# Altium integrated library Resistor - Current Sense.IntLib: 810 symbols (part 12 of 12)
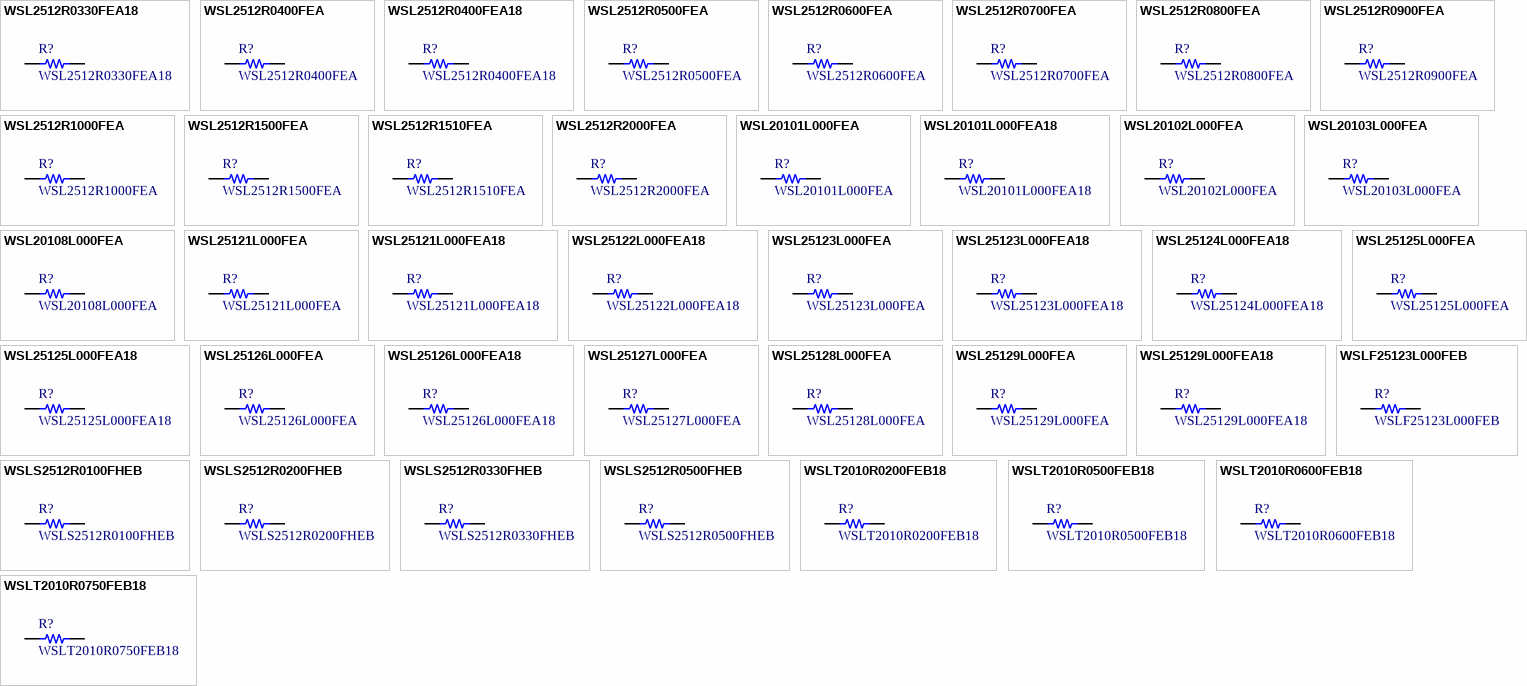
[diagram p31: symbols WSL2512R0330FEA18 to WSLT2010R0750FEB18]

## WSL25126L000FEA18
designator R?
RES SMD 0.006 OHM 1% 2W 2512; Manufacturer: Vishay Dale; Value: 0.006; TemperatureRange: -65C ~ 170C; TemperatureCoefficient: 110ppm/C; Part Number: WSL25126L000FEA18; PartId: 21513; Supplier 1: Digi-Key; Supplier Part Number 1: WSLH-.006TR-ND; ComponentLink1Description: Datasheet; ComponentLink1URL: http://www.vishay.com/docs/31057/wslhigh.pdf; ComponentLink2Description: Digi-Key Listing; ComponentLink2URL: https://www.digikey.com/product-detail/en/vishay-dale/WSL25126L000FEA18/WSLH-.006TR-ND/2695044; Tolerance: 1%; PowerRating: 2W; Price: 0.8287; Device Package: 2512 (6432 Metric)
footprint STACKPOLE CSR2512
pins: 1, 2

## WSL25127L000FEA
designator R?
RES SMD 0.007 OHM 1% 1W 2512; Manufacturer: Vishay Dale; Value: 0.007; TemperatureRange: -65C ~ 170C; TemperatureCoefficient: 75ppm/C; Part Number: WSL25127L000FEA; PartId: 21502; Supplier 1: Digi-Key; Supplier Part Number 1: WSLG-.007TR-ND; ComponentLink1Description: Datasheet; ComponentLink1URL: http://www.vishay.com/docs/30100/wsl.pdf; ComponentLink2Description: Digi-Key Listing; ComponentLink2URL: https://www.digikey.com/product-detail/en/vishay-dale/WSL25127L000FEA/WSLG-.007TR-ND/712557; Tolerance: 1%; PowerRating: 1W; Price: 0.6375; Device Package: 2512 (6432 Metric)
footprint STACKPOLE CSR2512
pins: 1, 2

## WSL25128L000FEA
designator R?
RES SMD 0.008 OHM 1% 1W 2512; Manufacturer: Vishay Dale; Value: 0.008; TemperatureRange: -65C ~ 170C; TemperatureCoefficient: 75ppm/C; Part Number: WSL25128L000FEA; PartId: 21504; Supplier 1: Digi-Key; Supplier Part Number 1: WSLG-.008TR-ND; ComponentLink1Description: Datasheet; ComponentLink1URL: http://www.vishay.com/docs/30100/wsl.pdf; ComponentLink2Description: Digi-Key Listing; ComponentLink2URL: https://www.digikey.com/product-detail/en/vishay-dale/WSL25128L000FEA/WSLG-.008TR-ND/712558; Tolerance: 1%; PowerRating: 1W; Price: 0.6375; Device Package: 2512 (6432 Metric)
footprint STACKPOLE CSR2512
pins: 1, 2

## WSL25129L000FEA
designator R?
RES SMD 0.009 OHM 1% 1W 2512; Manufacturer: Vishay Dale; Value: 0.009; TemperatureRange: -65C ~ 170C; TemperatureCoefficient: 75ppm/C; Part Number: WSL25129L000FEA; PartId: 21503; Supplier 1: Digi-Key; Supplier Part Number 1: WSLG-.009TR-ND; ComponentLink1Description: Datasheet; ComponentLink1URL: http://www.vishay.com/docs/30100/wsl.pdf; ComponentLink2Description: Digi-Key Listing; ComponentLink2URL: https://www.digikey.com/product-detail/en/vishay-dale/WSL25129L000FEA/WSLG-.009TR-ND/712559; Tolerance: 1%; PowerRating: 1W; Price: 0.6375; Device Package: 2512 (6432 Metric)
footprint STACKPOLE CSR2512
pins: 1, 2

## WSL25129L000FEA18
designator R?
RES SMD 0.009 OHM 1% 2W 2512; Manufacturer: Vishay Dale; Value: 0.009; TemperatureRange: -65C ~ 170C; TemperatureCoefficient: 75ppm/C; Part Number: WSL25129L000FEA18; PartId: 21511; Supplier 1: Digi-Key; Supplier Part Number 1: WSLH-.009TR-ND; ComponentLink1Description: Datasheet; ComponentLink1URL: http://www.vishay.com/docs/31057/wslhigh.pdf; ComponentLink2Description: Digi-Key Listing; ComponentLink2URL: https://www.digikey.com/product-detail/en/vishay-dale/WSL25129L000FEA18/WSLH-.009TR-ND/712560; Tolerance: 1%; PowerRating: 2W; Price: 0.8287; Device Package: 2512 (6432 Metric)
footprint STACKPOLE CSR2512
pins: 1, 2

## WSLF25123L000FEB
designator R?
RES SMD 0.003 OHM 1% 4W 2512; Manufacturer: Vishay Dale; Value: 0.003; TemperatureRange: -65C ~ 170C; TemperatureCoefficient: 70ppm/C; Part Number: WSLF25123L000FEB; PartId: 21446; Supplier 1: Digi-Key; Supplier Part Number 1: 541-3132-2-ND; ComponentLink1Description: Datasheet; ComponentLink1URL: http://www.vishay.com/docs/30193/wslf.pdf; ComponentLink2Description: Digi-Key Listing; ComponentLink2URL: https://www.digikey.com/product-detail/en/vishay-dale/WSLF25123L000FEB/541-3132-2-ND/6194695; Tolerance: 1%; PowerRating: 4W; Price: 0.2835; Device Package: 2512 (6432 Metric)
footprint STACKPOLE CSR2512
pins: 1, 2

## WSLS2512R0100FHEB
designator R?
RES SMD 0.01 OHM 1% 1W 2512; Manufacturer: Vishay Dale; Value: 0.01; TemperatureRange: -65C ~ 170C; TemperatureCoefficient: 75ppm/C; Part Number: WSLS2512R0100FHEB; PartId: 21505; Supplier 1: Digi-Key; Supplier Part Number 1: WSLSA-.010TR-ND; ComponentLink1Description: Datasheet; ComponentLink1URL: http://www.vishay.com/docs/30123/wsls2512.pdf; ComponentLink2Description: Digi-Key Listing; ComponentLink2URL: https://www.digikey.com/product-detail/en/vishay-dale/WSLS2512R0100FHEB/WSLSA-.010TR-ND/2695182; Tolerance: 1%; PowerRating: 1W; Price: 0.65; Device Package: 2512 (6432 Metric)
footprint STACKPOLE CSR2512
pins: 1, 2

## WSLS2512R0200FHEB
designator R?
RES SMD 0.02 OHM 1% 1W 2512; Manufacturer: Vishay Dale; Value: 0.02; TemperatureRange: -65C ~ 170C; TemperatureCoefficient: 75ppm/C; Part Number: WSLS2512R0200FHEB; PartId: 21508; Supplier 1: Digi-Key; Supplier Part Number 1: WSLSA-.020TR-ND; ComponentLink1Description: Datasheet; ComponentLink1URL: http://www.vishay.com/docs/30123/wsls2512.pdf; ComponentLink2Description: Digi-Key Listing; ComponentLink2URL: https://www.digikey.com/product-detail/en/vishay-dale/WSLS2512R0200FHEB/WSLSA-.020TR-ND/2695184; Tolerance: 1%; PowerRating: 1W; Price: 0.65; Device Package: 2512 (6432 Metric)
footprint STACKPOLE CSR2512
pins: 1, 2

## WSLS2512R0330FHEB
designator R?
RES SMD 0.033 OHM 1% 1W 2512; Manufacturer: Vishay Dale; Value: 0.033; TemperatureRange: -65C ~ 170C; TemperatureCoefficient: 75ppm/C; Part Number: WSLS2512R0330FHEB; PartId: 21507; Supplier 1: Digi-Key; Supplier Part Number 1: WSLSA-.033TR-ND; ComponentLink1Description: Datasheet; ComponentLink1URL: http://www.vishay.com/docs/30123/wsls2512.pdf; ComponentLink2Description: Digi-Key Listing; ComponentLink2URL: https://www.digikey.com/product-detail/en/vishay-dale/WSLS2512R0330FHEB/WSLSA-.033TR-ND/2695185; Tolerance: 1%; PowerRating: 1W; Price: 0.65; Device Package: 2512 (6432 Metric)
footprint STACKPOLE CSR2512
pins: 1, 2

## WSLS2512R0500FHEB
designator R?
RES SMD 0.05 OHM 1% 1W 2512; Manufacturer: Vishay Dale; Value: 0.05; TemperatureRange: -65C ~ 170C; TemperatureCoefficient: 75ppm/C; Part Number: WSLS2512R0500FHEB; PartId: 21506; Supplier 1: Digi-Key; Supplier Part Number 1: WSLSA-.050TR-ND; ComponentLink1Description: Datasheet; ComponentLink1URL: http://www.vishay.com/docs/30123/wsls2512.pdf; ComponentLink2Description: Digi-Key Listing; ComponentLink2URL: https://www.digikey.com/product-detail/en/vishay-dale/WSLS2512R0500FHEB/WSLSA-.050TR-ND/2695187; Tolerance: 1%; PowerRating: 1W; Price: 0.65; Device Package: 2512 (6432 Metric)
footprint STACKPOLE CSR2512
pins: 1, 2

## WSLT2010R0200FEB18
designator R?
RES SMD 0.02 OHM 1% 1W 2010; Manufacturer: Vishay Dale; Value: 0.02; TemperatureRange: -65C ~ 275C; TemperatureCoefficient: 75ppm/C; Part Number: WSLT2010R0200FEB18; PartId: 21585; Supplier 1: Digi-Key; Supplier Part Number 1: WSLTA-.020TR-ND; ComponentLink1Description: Datasheet; ComponentLink1URL: http://www.vishay.com/docs/30138/wslt2010.pdf; ComponentLink2Description: Digi-Key Listing; ComponentLink2URL: https://www.digikey.com/product-detail/en/vishay-dale/WSLT2010R0200FEB18/WSLTA-.020TR-ND/2695141; Tolerance: 1%; PowerRating: 1W; Price: 0.3591; Device Package: 2010 (5025 Metric)
footprint STACKPOLE CSR2010
pins: 1, 2

## WSLT2010R0500FEB18
designator R?
RES SMD 0.05 OHM 1% 1W 2010; Manufacturer: Vishay Dale; Value: 0.05; TemperatureRange: -65C ~ 275C; TemperatureCoefficient: 75ppm/C; Part Number: WSLT2010R0500FEB18; PartId: 21586; Supplier 1: Digi-Key; Supplier Part Number 1: WSLTA-.050TR-ND; ComponentLink1Description: Datasheet; ComponentLink1URL: http://www.vishay.com/docs/30138/wslt2010.pdf; ComponentLink2Description: Digi-Key Listing; ComponentLink2URL: https://www.digikey.com/product-detail/en/vishay-dale/WSLT2010R0500FEB18/WSLTA-.050TR-ND/2695145; Tolerance: 1%; PowerRating: 1W; Price: 0.3591; Device Package: 2010 (5025 Metric)
footprint STACKPOLE CSR2010
pins: 1, 2

## WSLT2010R0600FEB18
designator R?
RES SMD 0.06 OHM 1% 1W 2010; Manufacturer: Vishay Dale; Value: 0.06; TemperatureRange: -65C ~ 275C; TemperatureCoefficient: 75ppm/C; Part Number: WSLT2010R0600FEB18; PartId: 21584; Supplier 1: Digi-Key; Supplier Part Number 1: WSLTA-.060TR-ND; ComponentLink1Description: Datasheet; ComponentLink1URL: http://www.vishay.com/docs/30138/wslt2010.pdf; ComponentLink2Description: Digi-Key Listing; ComponentLink2URL: https://www.digikey.com/product-detail/en/vishay-dale/WSLT2010R0600FEB18/WSLTA-.060TR-ND/2695146; Tolerance: 1%; PowerRating: 1W; Price: 0.3591; Device Package: 2010 (5025 Metric)
footprint STACKPOLE CSR2010
pins: 1, 2

## WSLT2010R0750FEB18
designator R?
RES SMD 0.075 OHM 1% 1W 2010; Manufacturer: Vishay Dale; Value: 0.075; TemperatureRange: -65C ~ 275C; TemperatureCoefficient: 75ppm/C; Part Number: WSLT2010R0750FEB18; PartId: 21578; Supplier 1: Digi-Key; Supplier Part Number 1: WSLTA-.075TR-ND; ComponentLink1Description: Datasheet; ComponentLink1URL: http://www.vishay.com/docs/30138/wslt2010.pdf; ComponentLink2Description: Digi-Key Listing; ComponentLink2URL: https://www.digikey.com/product-detail/en/vishay-dale/WSLT2010R0750FEB18/WSLTA-.075TR-ND/2695147; Tolerance: 1%; PowerRating: 1W; Price: 0.3307; Device Package: 2010 (5025 Metric)
footprint STACKPOLE CSR2010
pins: 1, 2

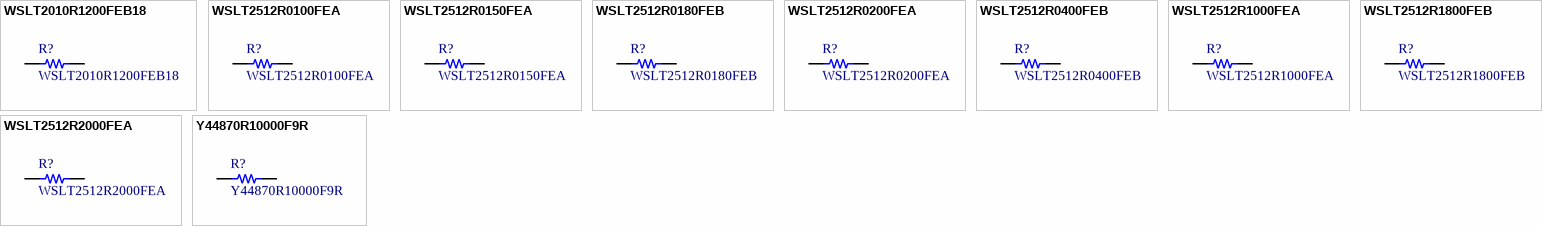
[diagram p20: symbols WSLT2010R1200FEB18 to Y44870R10000F9R]

## WSLT2010R1200FEB18
designator R?
RES SMD 0.12 OHM 1% 1W 2010; Manufacturer: Vishay Dale; Value: 0.12; TemperatureRange: -65C ~ 275C; TemperatureCoefficient: 75ppm/C; Part Number: WSLT2010R1200FEB18; PartId: 21579; Supplier 1: Digi-Key; Supplier Part Number 1: WSLTA-.120TR-ND; ComponentLink1Description: Datasheet; ComponentLink1URL: http://www.vishay.com/docs/30138/wslt2010.pdf; ComponentLink2Description: Digi-Key Listing; ComponentLink2URL: https://www.digikey.com/product-detail/en/vishay-dale/WSLT2010R1200FEB18/WSLTA-.120TR-ND/2695149; Tolerance: 1%; PowerRating: 1W; Price: 0.3307; Device Package: 2010 (5025 Metric)
footprint STACKPOLE CSR2010
pins: 1, 2

## WSLT2512R0100FEA
designator R?
RES SMD 0.01 OHM 1% 1W 2512; Manufacturer: Vishay Dale; Value: 0.01; TemperatureRange: -65C ~ 275C; TemperatureCoefficient: 75ppm/C; Part Number: WSLT2512R0100FEA; PartId: 21457; Supplier 1: Digi-Key; Supplier Part Number 1: WSLT-.01TR-ND; ComponentLink1Description: Datasheet; ComponentLink1URL: http://www.vishay.com/docs/30121/wslt2512.pdf; ComponentLink2Description: Digi-Key Listing; ComponentLink2URL: https://www.digikey.com/product-detail/en/vishay-dale/WSLT2512R0100FEA/WSLT-.01TR-ND/1883284; Tolerance: 1%; PowerRating: 1W; Price: 0.351; Device Package: 2512 (6432 Metric)
footprint STACKPOLE CSR2512
pins: 1, 2

## WSLT2512R0150FEA
designator R?
RES SMD 0.015 OHM 1% 1W 2512; Manufacturer: Vishay Dale; Value: 0.015; TemperatureRange: -65C ~ 275C; TemperatureCoefficient: 75ppm/C; Part Number: WSLT2512R0150FEA; PartId: 21459; Supplier 1: Digi-Key; Supplier Part Number 1: WSLT-.015TR-ND; ComponentLink1Description: Datasheet; ComponentLink1URL: http://www.vishay.com/docs/30121/wslt2512.pdf; ComponentLink2Description: Digi-Key Listing; ComponentLink2URL: https://www.digikey.com/product-detail/en/vishay-dale/WSLT2512R0150FEA/WSLT-.015TR-ND/1883285; Tolerance: 1%; PowerRating: 1W; Price: 0.351; Device Package: 2512 (6432 Metric)
footprint STACKPOLE CSR2512
pins: 1, 2

## WSLT2512R0180FEB
designator R?
RES SMD 0.018 OHM 1% 1W 2512; Manufacturer: Vishay Dale; Value: 0.018; TemperatureRange: -65C ~ 275C; TemperatureCoefficient: 75ppm/C; Part Number: WSLT2512R0180FEB; PartId: 21460; Supplier 1: Digi-Key; Supplier Part Number 1: WSLTB-.018TR-ND; ComponentLink1Description: Datasheet; ComponentLink1URL: http://www.vishay.com/docs/30121/wslt2512.pdf; ComponentLink2Description: Digi-Key Listing; ComponentLink2URL: https://www.digikey.com/product-detail/en/vishay-dale/WSLT2512R0180FEB/WSLTB-.018TR-ND/2695160; Tolerance: 1%; PowerRating: 1W; Price: 0.3591; Device Package: 2512 (6432 Metric)
footprint STACKPOLE CSR2512
pins: 1, 2

## WSLT2512R0200FEA
designator R?
RES SMD 0.02 OHM 1% 1W 2512; Manufacturer: Vishay Dale; Value: 0.02; TemperatureRange: -65C ~ 275C; TemperatureCoefficient: 75ppm/C; Part Number: WSLT2512R0200FEA; PartId: 21458; Supplier 1: Digi-Key; Supplier Part Number 1: WSLT-.02TR-ND; ComponentLink1Description: Datasheet; ComponentLink1URL: http://www.vishay.com/docs/30121/wslt2512.pdf; ComponentLink2Description: Digi-Key Listing; ComponentLink2URL: https://www.digikey.com/product-detail/en/vishay-dale/WSLT2512R0200FEA/WSLT-.02TR-ND/1883286; Tolerance: 1%; PowerRating: 1W; Price: 0.351; Device Package: 2512 (6432 Metric)
footprint STACKPOLE CSR2512
pins: 1, 2

## WSLT2512R0400FEB
designator R?
RES SMD 0.04 OHM 1% 1W 2512; Manufacturer: Vishay Dale; Value: 0.04; TemperatureRange: -65C ~ 275C; TemperatureCoefficient: 75ppm/C; Part Number: WSLT2512R0400FEB; PartId: 21461; Supplier 1: Digi-Key; Supplier Part Number 1: WSLTB-.040TR-ND; ComponentLink1Description: Datasheet; ComponentLink1URL: http://www.vishay.com/docs/30121/wslt2512.pdf; ComponentLink2Description: Digi-Key Listing; ComponentLink2URL: https://www.digikey.com/product-detail/en/vishay-dale/WSLT2512R0400FEB/WSLTB-.040TR-ND/2695161; Tolerance: 1%; PowerRating: 1W; Price: 0.3591; Device Package: 2512 (6432 Metric)
footprint STACKPOLE CSR2512
pins: 1, 2

## WSLT2512R1000FEA
designator R?
RES SMD 0.1 OHM 1% 1W 2512; Manufacturer: Vishay Dale; Value: 0.1; TemperatureRange: -65C ~ 275C; TemperatureCoefficient: 75ppm/C; Part Number: WSLT2512R1000FEA; PartId: 21453; Supplier 1: Digi-Key; Supplier Part Number 1: WSLT-.1TR-ND; ComponentLink1Description: Datasheet; ComponentLink1URL: http://www.vishay.com/docs/30121/wslt2512.pdf; ComponentLink2Description: Digi-Key Listing; ComponentLink2URL: https://www.digikey.com/product-detail/en/vishay-dale/WSLT2512R1000FEA/WSLT-.1TR-ND/1883288; Tolerance: 1%; PowerRating: 1W; Price: 0.3221; Device Package: 2512 (6432 Metric)
footprint STACKPOLE CSR2512
pins: 1, 2

## WSLT2512R1800FEB
designator R?
RES SMD 0.18 OHM 1% 1W 2512; Manufacturer: Vishay Dale; Value: 0.18; TemperatureRange: -65C ~ 275C; TemperatureCoefficient: 75ppm/C; Part Number: WSLT2512R1800FEB; PartId: 21456; Supplier 1: Digi-Key; Supplier Part Number 1: WSLTB-.180TR-ND; ComponentLink1Description: Datasheet; ComponentLink1URL: http://www.vishay.com/docs/30121/wslt2512.pdf; ComponentLink2Description: Digi-Key Listing; ComponentLink2URL: https://www.digikey.com/product-detail/en/vishay-dale/WSLT2512R1800FEB/WSLTB-.180TR-ND/2695167; Tolerance: 1%; PowerRating: 1W; Price: 0.3307; Device Package: 2512 (6432 Metric)
footprint STACKPOLE CSR2512
pins: 1, 2

## WSLT2512R2000FEA
designator R?
RES SMD 0.2 OHM 1% 1W 2512; Manufacturer: Vishay Dale; Value: 0.2; TemperatureRange: -65C ~ 275C; TemperatureCoefficient: 75ppm/C; Part Number: WSLT2512R2000FEA; PartId: 21454; Supplier 1: Digi-Key; Supplier Part Number 1: WSLT-.2TR-ND; ComponentLink1Description: Datasheet; ComponentLink1URL: http://www.vishay.com/docs/30121/wslt2512.pdf; ComponentLink2Description: Digi-Key Listing; ComponentLink2URL: https://www.digikey.com/product-detail/en/vishay-dale/WSLT2512R2000FEA/WSLT-.2TR-ND/1883289; Tolerance: 1%; PowerRating: 1W; Price: 0.3221; Device Package: 2512 (6432 Metric)
footprint STACKPOLE CSR2512
pins: 1, 2

## Y44870R10000F9R
designator R?
RES SMD 0.1 OHM 1% 1W 2512; Manufacturer: Vishay Foil Resistors (Division of Vishay Precision Group); Value: 0.1; TemperatureRange: -65C ~ 170C; TemperatureCoefficient: 15ppm/C; Part Number: Y44870R10000F9R; PartId: 21518; Supplier 1: Digi-Key; Supplier Part Number 1: Y4487-.1ATR-ND; ComponentLink1Description: Datasheet; ComponentLink1URL: http://www.vishaypg.com/docs/63145/csm2512s.pdf; ComponentLink2Description: Digi-Key Listing; ComponentLink2URL: https://www.digikey.com/product-detail/en/vishay-foil-resistors-division-of-vishay-precision-group/Y44870R10000F9R/Y4487-.1ATR-ND/2609909; Tolerance: 1%; PowerRating: 1W; Price: 9.61; Device Package: 2512 (6432 Metric)
footprint STACKPOLE CSR2512
pins: 1, 2